# Altium integrated library Atmel Communication ICs.IntLib: 82 symbols (part 3 of 3)
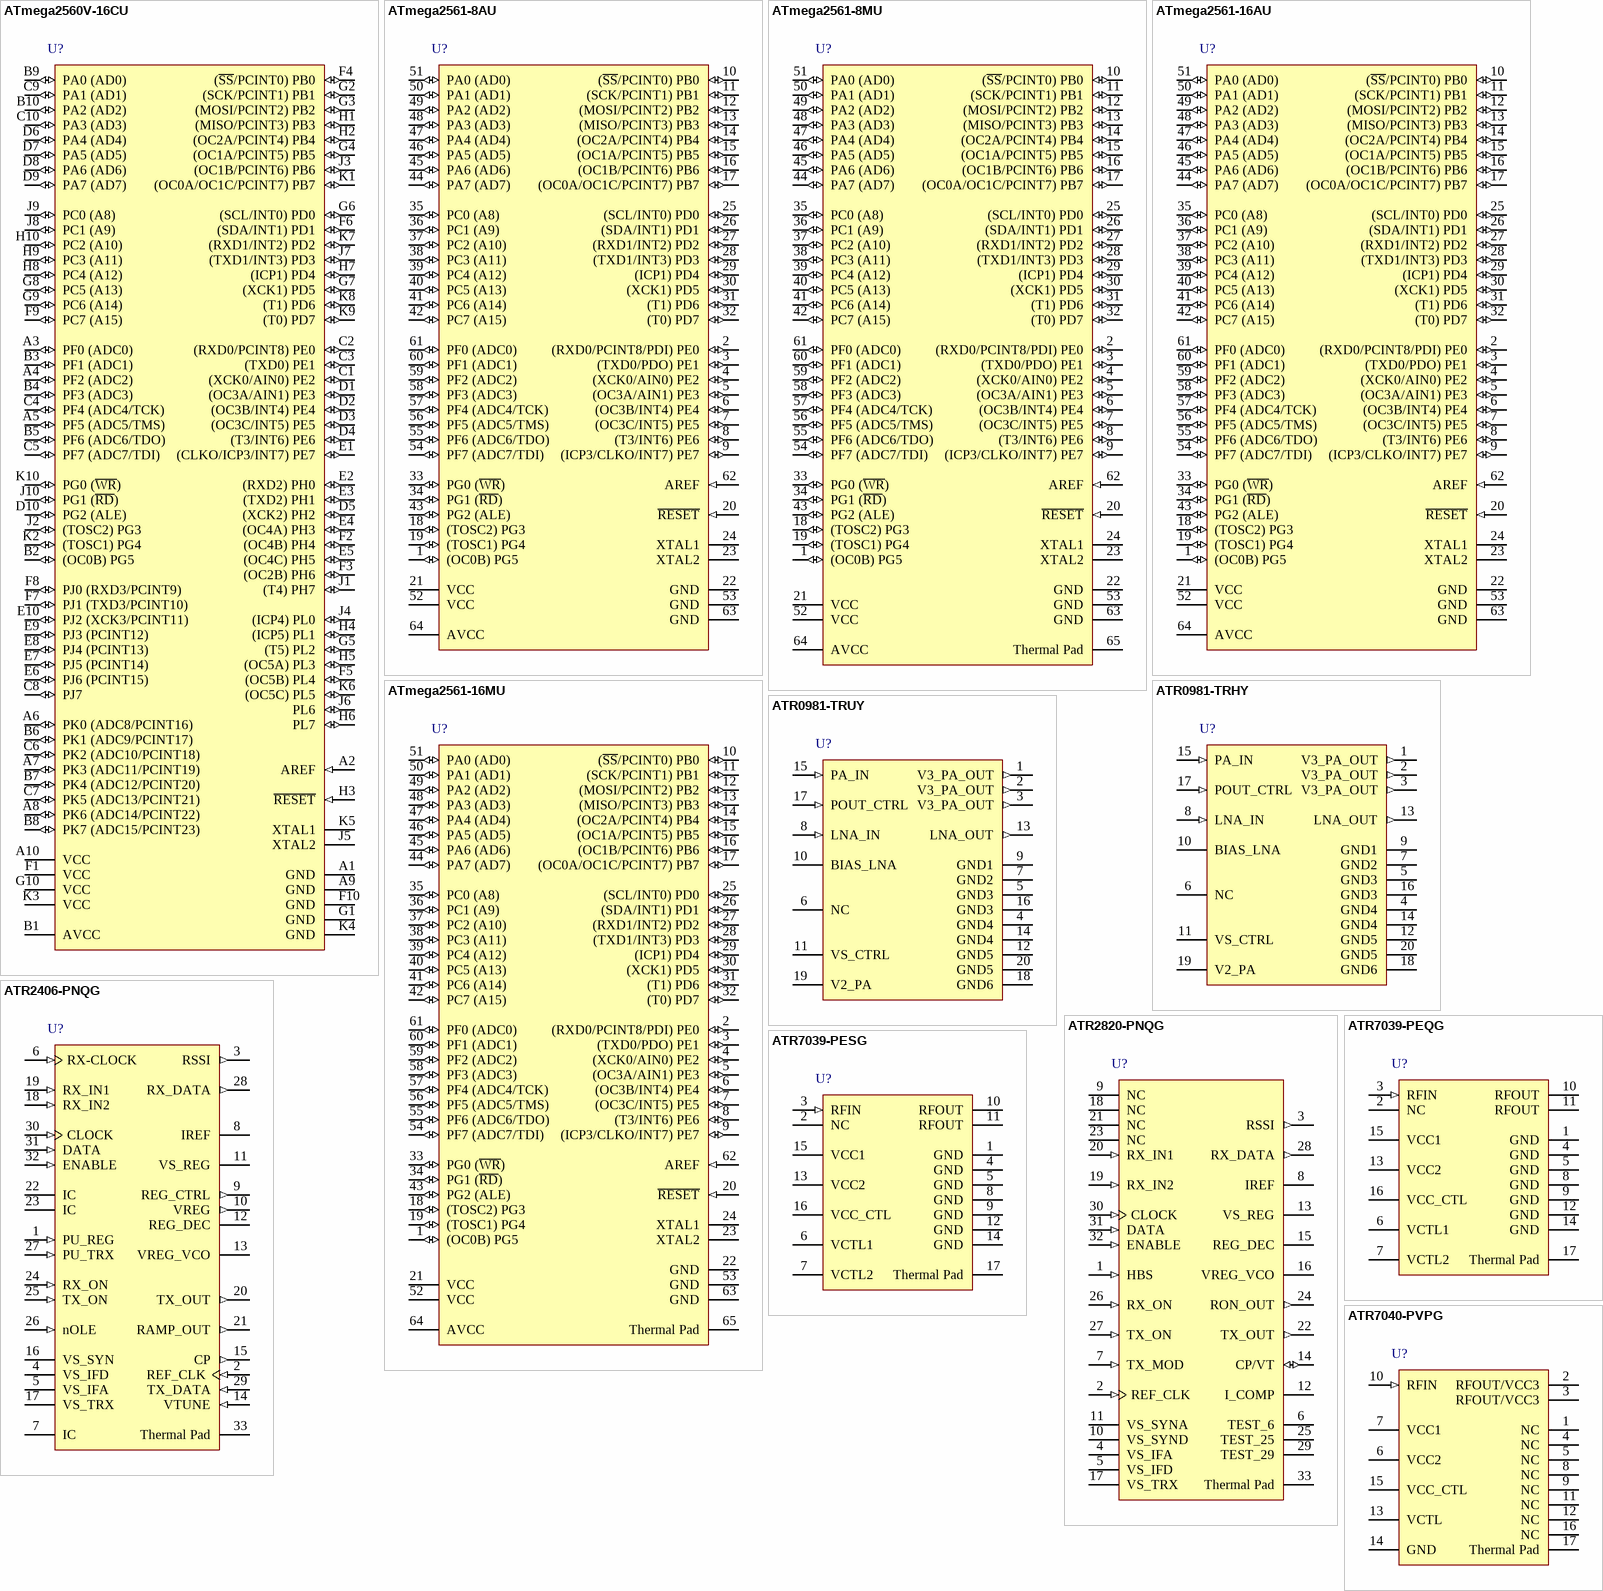
[diagram p10: symbols ATmega2560V-16CU to ATR7040-PVPG]

## ATmega2561-8MU
designator U?
8 MHz 8-bit AVR Microcontroller with 256KB Flash, 64-Pin MLF Pkg, 54 I/Os, 6 PWMs, 2 USARTs, 8 ADC Channels, Industrial Temp; Published: 20-Sep-2010; DatasheetVersion: revL, Aug-2007; PackageVersion: revD, May-2006; PackageReference: 64M2; Publisher: Altium Limited; PackageDescription: 64-Pin Micro Lead Frame Package (MLF), 9 x 9 x 1.0 mm Body, 0.5 mm Pitch, 7.65 mm Exposed Pad; Code_JEDEC: MO-220VMMD; ComponentLink1Description: ATmega2561 Datasheet; ComponentLink1URL: http://www.atmel.com/dyn/resources/prod_documents/doc2549.pdf; ComponentLink2Description: Atmel.com Home; ComponentLink2URL: http://www.atmel.com
footprint 64M2_N (QFN, 64-Leads, Body 9x9mm, Pitch 0.5mm, IPC Medium Density)
footprint 64M2_L (QFN, 64-Leads, Body 9x9mm, Pitch 0.5mm, IPC High Density)
footprint 64M2_M (QFN, 64-Leads, Body 9x9mm, Pitch 0.5mm, IPC Low Density)
pins: 1 (OC0B) PG5 (io), 2 (RXD0/PCINT8/PDI) PE0 (io), 3 (TXD0/PDO) PE1 (io), 4 (XCK0/AIN0) PE2 (io), 5 (OC3A/AIN1) PE3 (io), 6 (OC3B/INT4) PE4 (io), 7 (OC3C/INT5) PE5 (io), 8 (T3/INT6) PE6 (io), 9 (ICP3/CLKO/INT7) PE7 (io), 10 (~{SS}/PCINT0) PB0 (io), 11 (SCK/PCINT1) PB1 (io), 12 (MOSI/PCINT2) PB2 (io), 13 (MISO/PCINT3) PB3 (io), 14 (OC2A/PCINT4) PB4 (io), 15 (OC1A/PCINT5) PB5 (io), 16 (OC1B/PCINT6) PB6 (io), 17 (OC0A/OC1C/PCINT7) PB7 (io), 18 (TOSC2) PG3 (io), 19 (TOSC1) PG4 (io), 20 ~{RESET} (in), 21 VCC (power), 22 GND (power), 23 XTAL2, 24 XTAL1, 25 (SCL/INT0) PD0 (io), 26 (SDA/INT1) PD1 (io), 27 (RXD1/INT2) PD2 (io), 28 (TXD1/INT3) PD3 (io), 29 (ICP1) PD4 (io), 30 (XCK1) PD5 (io), 31 (T1) PD6 (io), 32 (T0) PD7 (io), 33 PG0 (~{WR})  (io), 34 PG1 (~{RD})  (io), 35 PC0 (A8)  (io), 36 PC1 (A9)  (io), 37 PC2 (A10)  (io), 38 PC3 (A11)  (io), 39 PC4 (A12)  (io), 40 PC5 (A13)  (io), 41 PC6 (A14)  (io), 42 PC7 (A15)  (io), 43 PG2 (ALE)  (io), 44 PA7 (AD7)  (io), 45 PA6 (AD6)  (io), 46 PA5 (AD5)  (io), 47 PA4 (AD4)  (io), 48 PA3 (AD3)  (io), 49 PA2 (AD2) (io), 50 PA1 (AD1) (io), 51 PA0 (AD0) (io), 52 VCC (power), 53 GND (power), 54 PF7 (ADC7/TDI) (io), 55 PF6 (ADC6/TDO) (io), 56 PF5 (ADC5/TMS) (io), 57 PF4 (ADC4/TCK) (io), 58 PF3 (ADC3) (io), 59 PF2 (ADC2) (io), 60 PF1 (ADC1) (io), 61 PF0 (ADC0) (io), 62 AREF (in), 63 GND (power), 64 AVCC (power), 65 Thermal Pad (power)

## ATmega2561-16AU
designator U?
16 MHz 8-bit AVR Microcontroller with 256KB Flash, 64-Pin TQFP Pkg, 54 I/Os, 6 PWMs, 2 USARTs, 8 ADC Channels, Industrial Temp; Published: 20-Sep-2010; DatasheetVersion: revL, Aug-2007; PackageVersion: revB, Oct-2001; PackageReference: 64A; Publisher: Altium Limited; PackageDescription: 64-Pin Plastic Thin Profile Quad Flat Pack, 14 x 14 x 1.0 mm Body, 0.8 mm Pitch (TQFP); Supplier 1: Digi-Key; Supplier Part Number 1: ATMEGA2561-16AU-ND; Supplier 2: Farnell; Supplier Part Number 2: 1288332; Supplier 3: Mouser; Supplier Part Number 3: 556-ATMEGA2561-16AU; Code_JEDEC: MS-026-AEB; ComponentLink1Description: ATmega2561 Datasheet; ComponentLink1URL: http://www.atmel.com/dyn/resources/prod_documents/doc2549.pdf; ComponentLink2Description: Atmel.com Home; ComponentLink2URL: http://www.atmel.com
footprint 64A_N (Thin QFP, 64-Leads, Body 14x14mm, Pitch 0.8mm, IPC Medium Density)
footprint 64A_L (Thin QFP, 64-Leads, Body 14x14mm, Pitch 0.8mm, IPC High Density)
footprint 64A_M (Thin QFP, 64-Leads, Body 14x14mm, Pitch 0.8mm, IPC Low Density)
pins: 1 (OC0B) PG5 (io), 2 (RXD0/PCINT8/PDI) PE0 (io), 3 (TXD0/PDO) PE1 (io), 4 (XCK0/AIN0) PE2 (io), 5 (OC3A/AIN1) PE3 (io), 6 (OC3B/INT4) PE4 (io), 7 (OC3C/INT5) PE5 (io), 8 (T3/INT6) PE6 (io), 9 (ICP3/CLKO/INT7) PE7 (io), 10 (~{SS}/PCINT0) PB0 (io), 11 (SCK/PCINT1) PB1 (io), 12 (MOSI/PCINT2) PB2 (io), 13 (MISO/PCINT3) PB3 (io), 14 (OC2A/PCINT4) PB4 (io), 15 (OC1A/PCINT5) PB5 (io), 16 (OC1B/PCINT6) PB6 (io), 17 (OC0A/OC1C/PCINT7) PB7 (io), 18 (TOSC2) PG3 (io), 19 (TOSC1) PG4 (io), 20 ~{RESET} (in), 21 VCC (power), 22 GND (power), 23 XTAL2, 24 XTAL1, 25 (SCL/INT0) PD0 (io), 26 (SDA/INT1) PD1 (io), 27 (RXD1/INT2) PD2 (io), 28 (TXD1/INT3) PD3 (io), 29 (ICP1) PD4 (io), 30 (XCK1) PD5 (io), 31 (T1) PD6 (io), 32 (T0) PD7 (io), 33 PG0 (~{WR})  (io), 34 PG1 (~{RD})  (io), 35 PC0 (A8)  (io), 36 PC1 (A9)  (io), 37 PC2 (A10)  (io), 38 PC3 (A11)  (io), 39 PC4 (A12)  (io), 40 PC5 (A13)  (io), 41 PC6 (A14)  (io), 42 PC7 (A15)  (io), 43 PG2 (ALE)  (io), 44 PA7 (AD7)  (io), 45 PA6 (AD6)  (io), 46 PA5 (AD5)  (io), 47 PA4 (AD4)  (io), 48 PA3 (AD3)  (io), 49 PA2 (AD2) (io), 50 PA1 (AD1) (io), 51 PA0 (AD0) (io), 52 VCC (power), 53 GND (power), 54 PF7 (ADC7/TDI) (io), 55 PF6 (ADC6/TDO) (io), 56 PF5 (ADC5/TMS) (io), 57 PF4 (ADC4/TCK) (io), 58 PF3 (ADC3) (io), 59 PF2 (ADC2) (io), 60 PF1 (ADC1) (io), 61 PF0 (ADC0) (io), 62 AREF (in), 63 GND (power), 64 AVCC (power)

## ATmega2561-16MU
designator U?
16 MHz 8-bit AVR Microcontroller with 256KB Flash, 64-Pin MLF Pkg, 54 I/Os, 6 PWMs, 2 USARTs, 8 ADC Channels, Industrial Temp; Published: 20-Sep-2010; DatasheetVersion: revL, Aug-2007; PackageVersion: revD, May-2006; PackageReference: 64M2; Publisher: Altium Limited; PackageDescription: 64-Pin Micro Lead Frame Package (MLF), 9 x 9 x 1.0 mm Body, 0.5 mm Pitch, 7.65 mm Exposed Pad; Supplier 1: Digi-Key; Supplier Part Number 1: ATMEGA2561-16MU-ND; Supplier 2: Mouser; Supplier Part Number 2: 556-ATMEGA2561-16MU; Code_JEDEC: MO-220VMMD; ComponentLink1Description: ATmega2561 Datasheet; ComponentLink1URL: http://www.atmel.com/dyn/resources/prod_documents/doc2549.pdf; ComponentLink2Description: Atmel.com Home; ComponentLink2URL: http://www.atmel.com
footprint 64M2_N (QFN, 64-Leads, Body 9x9mm, Pitch 0.5mm, IPC Medium Density)
footprint 64M2_L (QFN, 64-Leads, Body 9x9mm, Pitch 0.5mm, IPC High Density)
footprint 64M2_M (QFN, 64-Leads, Body 9x9mm, Pitch 0.5mm, IPC Low Density)
pins: 1 (OC0B) PG5 (io), 2 (RXD0/PCINT8/PDI) PE0 (io), 3 (TXD0/PDO) PE1 (io), 4 (XCK0/AIN0) PE2 (io), 5 (OC3A/AIN1) PE3 (io), 6 (OC3B/INT4) PE4 (io), 7 (OC3C/INT5) PE5 (io), 8 (T3/INT6) PE6 (io), 9 (ICP3/CLKO/INT7) PE7 (io), 10 (~{SS}/PCINT0) PB0 (io), 11 (SCK/PCINT1) PB1 (io), 12 (MOSI/PCINT2) PB2 (io), 13 (MISO/PCINT3) PB3 (io), 14 (OC2A/PCINT4) PB4 (io), 15 (OC1A/PCINT5) PB5 (io), 16 (OC1B/PCINT6) PB6 (io), 17 (OC0A/OC1C/PCINT7) PB7 (io), 18 (TOSC2) PG3 (io), 19 (TOSC1) PG4 (io), 20 ~{RESET} (in), 21 VCC (power), 22 GND (power), 23 XTAL2, 24 XTAL1, 25 (SCL/INT0) PD0 (io), 26 (SDA/INT1) PD1 (io), 27 (RXD1/INT2) PD2 (io), 28 (TXD1/INT3) PD3 (io), 29 (ICP1) PD4 (io), 30 (XCK1) PD5 (io), 31 (T1) PD6 (io), 32 (T0) PD7 (io), 33 PG0 (~{WR})  (io), 34 PG1 (~{RD})  (io), 35 PC0 (A8)  (io), 36 PC1 (A9)  (io), 37 PC2 (A10)  (io), 38 PC3 (A11)  (io), 39 PC4 (A12)  (io), 40 PC5 (A13)  (io), 41 PC6 (A14)  (io), 42 PC7 (A15)  (io), 43 PG2 (ALE)  (io), 44 PA7 (AD7)  (io), 45 PA6 (AD6)  (io), 46 PA5 (AD5)  (io), 47 PA4 (AD4)  (io), 48 PA3 (AD3)  (io), 49 PA2 (AD2) (io), 50 PA1 (AD1) (io), 51 PA0 (AD0) (io), 52 VCC (power), 53 GND (power), 54 PF7 (ADC7/TDI) (io), 55 PF6 (ADC6/TDO) (io), 56 PF5 (ADC5/TMS) (io), 57 PF4 (ADC4/TCK) (io), 58 PF3 (ADC3) (io), 59 PF2 (ADC2) (io), 60 PF1 (ADC1) (io), 61 PF0 (ADC0) (io), 62 AREF (in), 63 GND (power), 64 AVCC (power), 65 Thermal Pad (power)

## ATR0981-TRHY
designator U?
Monolithic SiGe Tx/Rx Front-end IC, 20-Pin SSOP Pkg, Frequency Range 300 MHz to 500 MHz, Taped and Reeled; Published: 20-Sep-2010; DatasheetVersion: revA, Sep-2005; PackageVersion: 2005; PackageReference: SSO20; Publisher: Altium Limited; PackageDescription: 20-Pin Shrink SOP, 6.6 x 4.4 x 1.3 mm Body, 0.65 mm Pitch; Supplier 1: Digi-Key; Supplier Part Number 1: ATR0981-TRHY-ND; Supplier 2: Mouser; Supplier Part Number 2: 556-ATR0981TRHY; ComponentLink1Description: ATR0981 Datasheet; ComponentLink1URL: http://www.atmel.com/dyn/resources/prod_documents/doc4862.pdf; ComponentLink2Description: Atmel.com Home; ComponentLink2URL: http://www.atmel.com
footprint SSO20_N (SOP, 20-Leads, Body 6.6x4.4mm, Pitch 0.65mm, IPC Medium Density)
footprint SSO20_L (SOP, 20-Leads, Body 6.6x4.4mm, Pitch 0.65mm, IPC High Density)
footprint SSO20_M (SOP, 20-Leads, Body 6.6x4.4mm, Pitch 0.65mm, IPC Low Density)
pins: 1 V3_PA_OUT (out), 2 V3_PA_OUT (out), 3 V3_PA_OUT (out), 4 GND4 (power), 5 GND3 (power), 6 NC, 7 GND2 (power), 8 LNA_IN (in), 9 GND1 (power), 10 BIAS_LNA, 11 VS_CTRL (power), 12 GND5 (power), 13 LNA_OUT (out), 14 GND4 (power), 15 PA_IN (in), 16 GND3 (power), 17 POUT_CTRL (in), 18 GND6 (power), 19 V2_PA (power), 20 GND5 (power)

## ATR0981-TRUY
designator U?
Monolithic SiGe Tx/Rx Front-end IC, 20-Pin SSOP Pkg, Frequency Range 300 MHz to 500 MHz, Tube; Published: 20-Sep-2010; DatasheetVersion: revA, Sep-2005; PackageVersion: 2005; PackageReference: SSO20; Publisher: Altium Limited; PackageDescription: 20-Pin Shrink SOP, 6.6 x 4.4 x 1.3 mm Body, 0.65 mm Pitch; Supplier 1: Digi-Key; Supplier Part Number 1: ATR0981-TRUY-ND; Supplier 2: Mouser; Supplier Part Number 2: 556-ATR0981TRUY; ComponentLink1Description: ATR0981 Datasheet; ComponentLink1URL: http://www.atmel.com/dyn/resources/prod_documents/doc4862.pdf; ComponentLink2Description: Atmel.com Home; ComponentLink2URL: http://www.atmel.com
footprint SSO20_N (SOP, 20-Leads, Body 6.6x4.4mm, Pitch 0.65mm, IPC Medium Density)
footprint SSO20_L (SOP, 20-Leads, Body 6.6x4.4mm, Pitch 0.65mm, IPC High Density)
footprint SSO20_M (SOP, 20-Leads, Body 6.6x4.4mm, Pitch 0.65mm, IPC Low Density)
pins: 1 V3_PA_OUT (out), 2 V3_PA_OUT (out), 3 V3_PA_OUT (out), 4 GND4 (power), 5 GND3 (power), 6 NC, 7 GND2 (power), 8 LNA_IN (in), 9 GND1 (power), 10 BIAS_LNA, 11 VS_CTRL (power), 12 GND5 (power), 13 LNA_OUT (out), 14 GND4 (power), 15 PA_IN (in), 16 GND3 (power), 17 POUT_CTRL (in), 18 GND6 (power), 19 V2_PA (power), 20 GND5 (power)

## ATR2406-PNQG
designator U?
Low-IF 2.4 GHz ISM Transceiver, 32-Pin QFN Pkg, Taped and Reeled, Pb-Free; Published: 20-Sep-2010; DatasheetVersion: revN, Dec-2008; PackageVersion: rev1, Jan-2003; PackageReference: 32QFN5X5; Publisher: Altium Limited; PackageDescription: 32-Pin Quad Flat No-Lead (QFN) Sawn,  5 x 5 x 1.0 mm Body, Pitch 0.50 mm, 3.70mm Exposed Pad; ComponentLink1Description: ATR2406 Datasheet; ComponentLink1URL: http://www.atmel.com/dyn/resources/prod_documents/doc4779.pdf; ComponentLink2Description: Atmel.com Home; ComponentLink2URL: http://www.atmel.com
footprint 32QFN5X5_N (QFN, 32-Leads, Body 5x5mm, Pitch 0.5mm, IPC Medium Density)
footprint 32QFN5X5_L (QFN, 32-Leads, Body 5x5mm, Pitch 0.5mm, IPC High Density)
footprint 32QFN5X5_M (QFN, 32-Leads, Body 5x5mm, Pitch 0.5mm, IPC Low Density)
pins: 1 PU_REG (in), 2 REF_CLK (in), 3 RSSI (out), 4 VS_IFD (power), 5 VS_IFA (power), 6 RX-CLOCK (in), 7 IC (power), 8 IREF, 9 REG_CTRL (out), 10 VREG (out), 11 VS_REG (power), 12 REG_DEC, 13 VREG_VCO (power), 14 VTUNE (in), 15 CP (out), 16 VS_SYN (power), 17 VS_TRX (power), 18 RX_IN2 (in), 19 RX_IN1 (in), 20 TX_OUT (out), 21 RAMP_OUT (out), 22 IC, 23 IC, 24 RX_ON (in), 25 TX_ON (in), 26 nOLE (in), 27 PU_TRX (in), 28 RX_DATA (out), 29 TX_DATA (in), 30 CLOCK (in), 31 DATA (in), 32 ENABLE (in), 33 Thermal Pad (power)

## ATR2820-PNQG
designator U?
Low IF WDCT 5.8 GHz Transceiver, 32-Pin QFN Pkg, Taped and Reeled; Published: 20-Sep-2010; DatasheetVersion: revA, Jan-2010; PackageVersion: revG, Nov-2008; PackageReference: 32PN; Publisher: Altium Limited; PackageDescription: 32-Pin Quad Flat No-Lead, 5 x 5 mm Body,  0.5 mm Pitch (QFN); Code_JEDEC: MO-220-VHHD-2; ComponentLink1Description: ATR2820 Datasheet; ComponentLink1URL: http://www.atmel.com/dyn/resources/prod_documents/doc4704.pdf; ComponentLink2Description: Atmel.com Home; ComponentLink2URL: http://www.atmel.com
footprint 32PN_N (QFN, 32-Leads, Body 5x5mm, Pitch 0.5mm, IPC Medium Density)
footprint 32PN_L (QFN, 32-Leads, Body 5x5mm, Pitch 0.5mm, IPC High Density)
footprint 32PN_M (QFN, 32-Leads, Body 5x5mm, Pitch 0.5mm, IPC Low Density)
pins: 1 HBS (in), 2 REF_CLK (in), 3 RSSI (out), 4 VS_IFA (power), 5 VS_IFD (power), 6 TEST_6, 7 TX_MOD (in), 8 IREF, 9 NC, 10 VS_SYND (power), 11 VS_SYNA (power), 12 I_COMP, 13 VS_REG (power), 14 CP/VT (io), 15 REG_DEC, 16 VREG_VCO (power), 17 VS_TRX (power), 18 NC, 19 RX_IN2 (in), 20 RX_IN1 (in), 21 NC, 22 TX_OUT (out), 23 NC, 24 RON_OUT (out), 25 TEST_25, 26 RX_ON (in), 27 TX_ON (in), 28 RX_DATA (out), 29 TEST_29, 30 CLOCK (in), 31 DATA (in), 32 ENABLE (in), 33 Thermal Pad (power)

## ATR7039-PEQG
designator U?
2.9 to 5.8 GHz SiGe Frequency Doubler IC, 16-Pin QFN Pkg, Taped and Reeled, MOQ 6000, Pb-Free; Published: 20-Sep-2010; DatasheetVersion: revE, Jul-2005; PackageVersion: rev2, Jan-2003; PackageReference: 16QFN4X4; Publisher: Altium Limited; PackageDescription: 16-Pin Quad Flat No-Lead, 4 x 4 mm Body, 0.65 mm Pitch, 2.1 x 2.1 mm Exposed Pad; Code_JEDEC: MO-220; ComponentLink1Description: ATR7039 Datasheet; ComponentLink1URL: http://www.atmel.com/dyn/resources/prod_documents/doc4786.pdf; ComponentLink2Description: Atmel.com Home; ComponentLink2URL: http://www.atmel.com
footprint 16QFN4X4_N (QFN, 16-Leads, Body 4x4 mm, Pitch 0.65mm, IPC Medium Density)
footprint 16QFN4X4_L (QFN, 16-Leads, Body 4x4 mm, Pitch 0.65mm, IPC High Density)
footprint 16QFN4X4_M (QFN, 16-Leads, Body 4x4 mm, Pitch 0.65mm, IPC Low Density)
pins: 1 GND (power), 2 NC, 3 RFIN (in), 4 GND (power), 5 GND (power), 6 VCTL1 (power), 7 VCTL2 (power), 8 GND (power), 9 GND (power), 10 RFOUT (power), 11 RFOUT (power), 12 GND (power), 13 VCC2 (power), 14 GND (power), 15 VCC1 (power), 16 VCC_CTL (power), 17 Thermal Pad (power)

## ATR7039-PESG
designator U?
2.9 to 5.8 GHz SiGe Frequency Doubler IC, 16-Pin QFN Pkg, Tube, MOQ 750, Pb-Free; Published: 20-Sep-2010; DatasheetVersion: revE, Jul-2005; PackageVersion: rev2, Jan-2003; PackageReference: 16QFN4X4; Publisher: Altium Limited; PackageDescription: 16-Pin Quad Flat No-Lead, 4 x 4 mm Body, 0.65 mm Pitch, 2.1 x 2.1 mm Exposed Pad; Code_JEDEC: MO-220; ComponentLink1Description: ATR7039 Datasheet; ComponentLink1URL: http://www.atmel.com/dyn/resources/prod_documents/doc4786.pdf; ComponentLink2Description: Atmel.com Home; ComponentLink2URL: http://www.atmel.com
footprint 16QFN4X4_N (QFN, 16-Leads, Body 4x4 mm, Pitch 0.65mm, IPC Medium Density)
footprint 16QFN4X4_L (QFN, 16-Leads, Body 4x4 mm, Pitch 0.65mm, IPC High Density)
footprint 16QFN4X4_M (QFN, 16-Leads, Body 4x4 mm, Pitch 0.65mm, IPC Low Density)
pins: 1 GND (power), 2 NC, 3 RFIN (in), 4 GND (power), 5 GND (power), 6 VCTL1 (power), 7 VCTL2 (power), 8 GND (power), 9 GND (power), 10 RFOUT (power), 11 RFOUT (power), 12 GND (power), 13 VCC2 (power), 14 GND (power), 15 VCC1 (power), 16 VCC_CTL (power), 17 Thermal Pad (power)

## ATR7040-PVPG
designator U?
5.8 GHz WDCT Power Amplifier, 16-Pin QFN Pkg, Taped and Reeled, MOQ 2000, Pb-Free; Published: 20-Sep-2010; DatasheetVersion: revC, May-2006; PackageVersion: rev1, Mar-2005; PackageReference: 16QFN3X3; Publisher: Altium Limited; PackageDescription: 16-Pin Quad Flat No-Lead, 3 x 3 mm Body, 0.5 mm Pitch, 1.7 x 1.7 mm Exposed Pad; Supplier 1: Digi-Key; Supplier Part Number 1: ATR7040-PVPG-ND; Supplier 2: Mouser; Supplier Part Number 2: 556-ATR7040-PVPG; Code_JEDEC: MO-220; ComponentLink1Description: ATR7040 Datasheet; ComponentLink1URL: http://www.atmel.com/dyn/resources/prod_documents/doc4868.pdf; ComponentLink2Description: Atmel.com Home; ComponentLink2URL: http://www.atmel.com
footprint 16QFN3X3_N (QFN, 16-Leads, Body 3x3mm, Pitch 0.5mm, IPC Medium Density)
footprint 16QFN3X3_L (QFN, 16-Leads, Body 3x3mm, Pitch 0.5mm, IPC High Density)
footprint 16QFN3X3_M (QFN, 16-Leads, Body 3x3mm, Pitch 0.5mm, IPC Low Density)
pins: 1 NC, 2 RFOUT/VCC3 (power), 3 RFOUT/VCC3 (power), 4 NC, 5 NC, 6 VCC2 (power), 7 VCC1 (power), 8 NC, 9 NC, 10 RFIN (in), 11 NC, 12 NC, 13 VCTL (power), 14 GND (power), 15 VCC_CTL (power), 16 NC, 17 Thermal Pad (power)

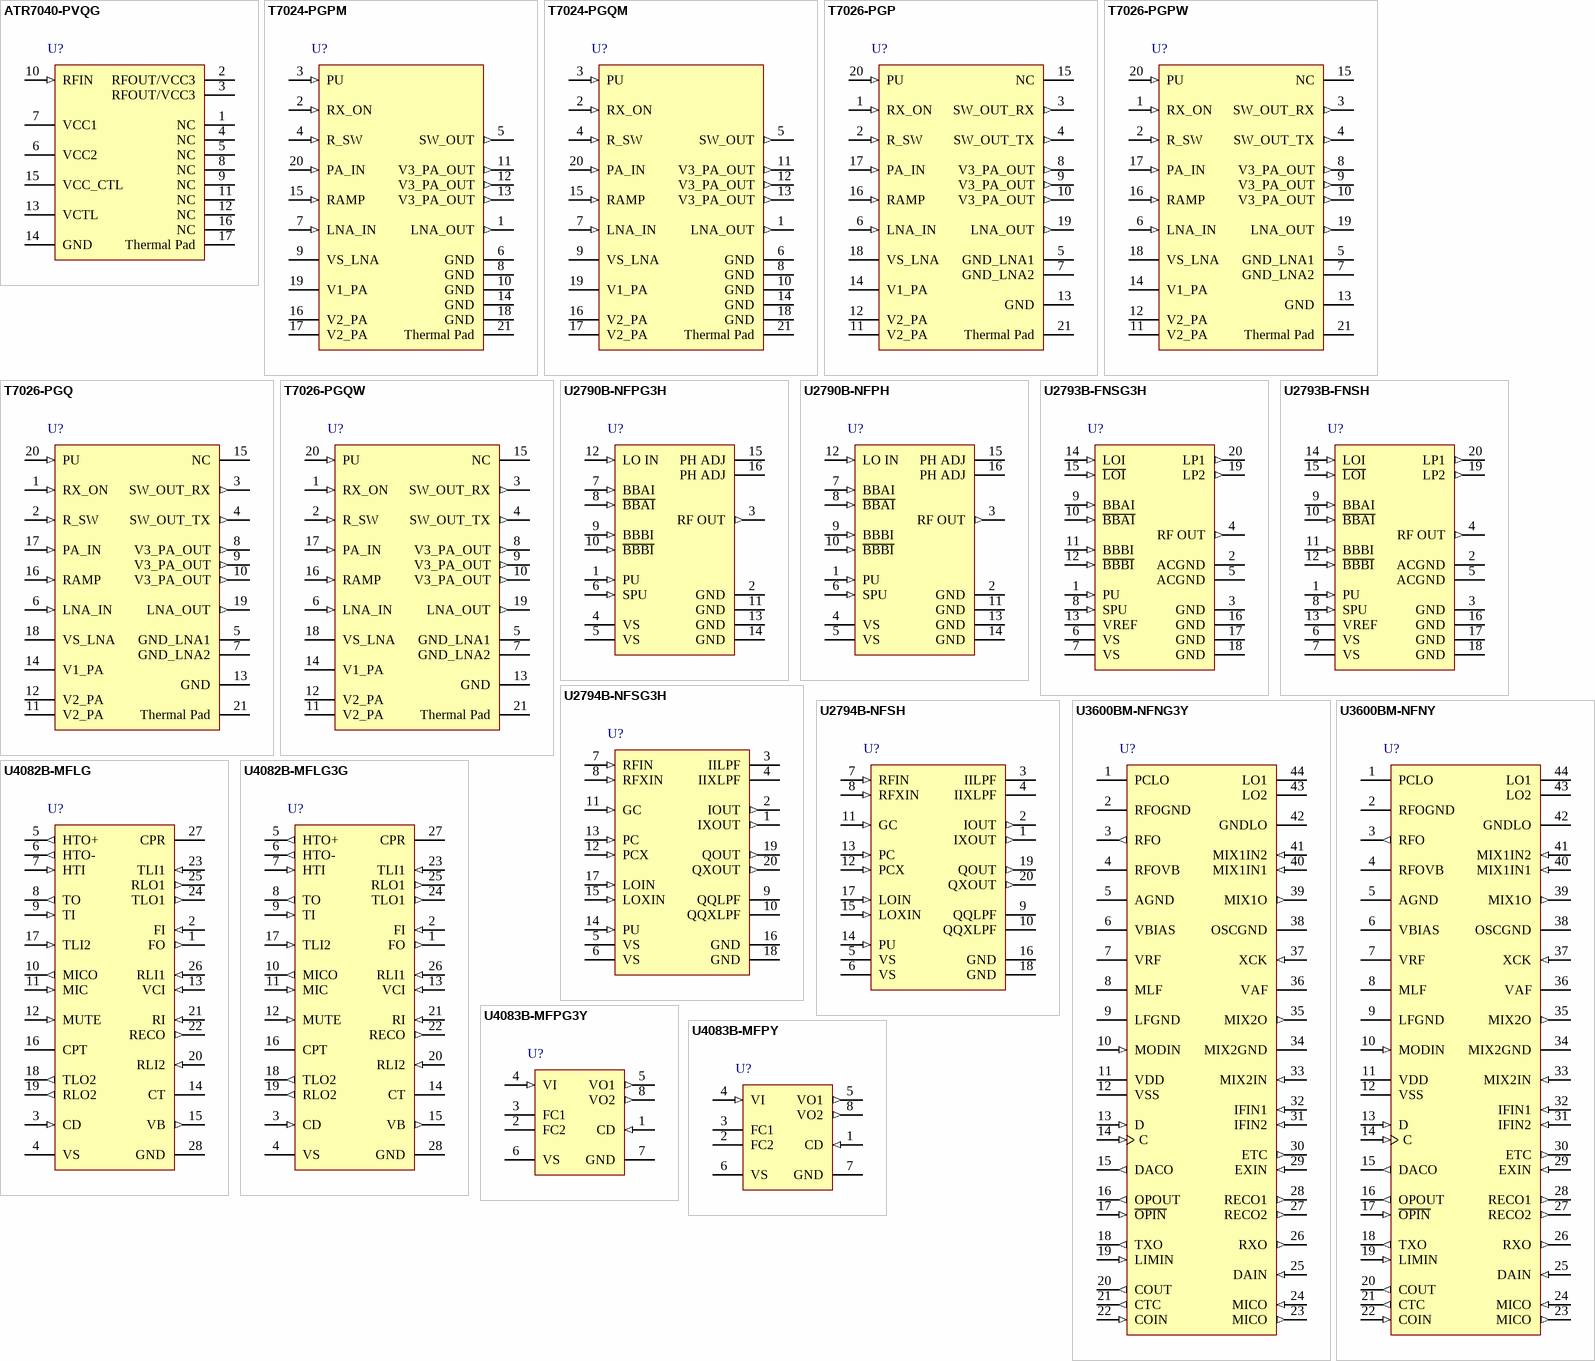
[diagram p7: symbols ATR7040-PVQG to U4083B-MFPY]

## ATR7040-PVQG
designator U?
5.8 GHz WDCT Power Amplifier, 16-Pin QFN Pkg, Taped and Reeled, MOQ 8000, Pb-Free; Published: 20-Sep-2010; DatasheetVersion: revC, May-2006; PackageVersion: rev1, Mar-2005; PackageReference: 16QFN3X3; Publisher: Altium Limited; PackageDescription: 16-Pin Quad Flat No-Lead, 3 x 3 mm Body, 0.5 mm Pitch, 1.7 x 1.7 mm Exposed Pad; Supplier 1: Digi-Key; Supplier Part Number 1: ATR7040-PVQG-ND; Supplier 2: Mouser; Supplier Part Number 2: 556-ATR7040-PVQG; Code_JEDEC: MO-220; ComponentLink1Description: ATR7040 Datasheet; ComponentLink1URL: http://www.atmel.com/dyn/resources/prod_documents/doc4868.pdf; ComponentLink2Description: Atmel.com Home; ComponentLink2URL: http://www.atmel.com
footprint 16QFN3X3_N (QFN, 16-Leads, Body 3x3mm, Pitch 0.5mm, IPC Medium Density)
footprint 16QFN3X3_L (QFN, 16-Leads, Body 3x3mm, Pitch 0.5mm, IPC High Density)
footprint 16QFN3X3_M (QFN, 16-Leads, Body 3x3mm, Pitch 0.5mm, IPC Low Density)
pins: 1 NC, 2 RFOUT/VCC3 (power), 3 RFOUT/VCC3 (power), 4 NC, 5 NC, 6 VCC2 (power), 7 VCC1 (power), 8 NC, 9 NC, 10 RFIN (in), 11 NC, 12 NC, 13 VCTL (power), 14 GND (power), 15 VCC_CTL (power), 16 NC, 17 Thermal Pad (power)

## T7024-PGPM
designator U?
Bluetooth ISM 2.4 GHz Tx/Rx Front End IC, 20-Pin QFN Pkg, Taped and Reeled, Pb-Free, Halogen-Free, 1500 pcs; Published: 20-Sep-2010; DatasheetVersion: revI, Jan-2009; PackageVersion: rev1, Dec-2002; PackageReference: QFN20; Publisher: Altium Limited; PackageDescription: 20-Pin Quad Flat No-Lead, 5 x 5 mm Body, 0.65 mm Pitch, 3.1 x 3.1 mm Exposed Pad; Supplier 1: Digi-Key; Supplier Part Number 1: T7024-PGPMTR-ND; Supplier 2: Digi-Key; Supplier Part Number 2: T7024-PGPMCT-ND; Supplier 3: Mouser; Supplier Part Number 3: 556-T7024-PGPM; Code_IPC: QFN65P500X500-20V; ComponentLink1Description: T7024 Datasheet; ComponentLink1URL: http://www.atmel.com/dyn/resources/prod_documents/doc4533.pdf; ComponentLink2Description: Atmel.com Home; ComponentLink2URL: http://www.atmel.com
footprint QFN20_N (QFN, 20-Leads, Body 5x5 mm, Pitch 0.65mm, IPC Medium Density)
footprint QFN20_L (QFN, 20-Leads, Body 5x5 mm, Pitch 0.65mm, IPC High Density)
footprint QFN20_M (QFN, 20-Leads, Body 5x5 mm, Pitch 0.65mm, IPC Low Density)
pins: 1 LNA_OUT (out), 2 RX_ON (in), 3 PU (in), 4 R_SW (in), 5 SW_OUT (out), 6 GND (power), 7 LNA_IN (in), 8 GND (power), 9 VS_LNA (power), 10 GND (power), 11 V3_PA_OUT (out), 12 V3_PA_OUT (out), 13 V3_PA_OUT (out), 14 GND (power), 15 RAMP (in), 16 V2_PA (power), 17 V2_PA (power), 18 GND (power), 19 V1_PA (power), 20 PA_IN (in), 21 Thermal Pad (power)

## T7024-PGQM
designator U?
Bluetooth ISM 2.4 GHz Tx/Rx Front End IC, 20-Pin QFN Pkg, Taped and Reeled, Pb-Free, Halogen-Free, 6000 pcs; Published: 20-Sep-2010; DatasheetVersion: revI, Jan-2009; PackageVersion: rev1, Dec-2002; PackageReference: QFN20; Publisher: Altium Limited; PackageDescription: 20-Pin Quad Flat No-Lead, 5 x 5 mm Body, 0.65 mm Pitch, 3.1 x 3.1 mm Exposed Pad; Supplier 1: Mouser; Supplier Part Number 1: 556-T7024-PGQM; Code_IPC: QFN65P500X500-20V; ComponentLink1Description: T7024 Datasheet; ComponentLink1URL: http://www.atmel.com/dyn/resources/prod_documents/doc4533.pdf; ComponentLink2Description: Atmel.com Home; ComponentLink2URL: http://www.atmel.com
footprint QFN20_N (QFN, 20-Leads, Body 5x5 mm, Pitch 0.65mm, IPC Medium Density)
footprint QFN20_L (QFN, 20-Leads, Body 5x5 mm, Pitch 0.65mm, IPC High Density)
footprint QFN20_M (QFN, 20-Leads, Body 5x5 mm, Pitch 0.65mm, IPC Low Density)
pins: 1 LNA_OUT (out), 2 RX_ON (in), 3 PU (in), 4 R_SW (in), 5 SW_OUT (out), 6 GND (power), 7 LNA_IN (in), 8 GND (power), 9 VS_LNA (power), 10 GND (power), 11 V3_PA_OUT (out), 12 V3_PA_OUT (out), 13 V3_PA_OUT (out), 14 GND (power), 15 RAMP (in), 16 V2_PA (power), 17 V2_PA (power), 18 GND (power), 19 V1_PA (power), 20 PA_IN (in), 21 Thermal Pad (power)

## T7026-PGP
designator U?
2.4 GHz Monolithic SiGe Transmit/Receive front-end IC, 20-Pin QFN Pkg, Taped and Reeled, MOQ 1500; Published: 20-Sep-2010; DatasheetVersion: revE, Jul-2005; PackageVersion: rev1, Dec-2002; PackageReference: QFN20; Publisher: Altium Limited; PackageDescription: 20-Pin Quad Flat No-Lead, 5 x 5 mm Body, 0.65 mm Pitch, 3.1 x 3.1 mm Exposed Pad; Supplier 1: Digi-Key; Supplier Part Number 1: T7026-PGPTR-ND; Supplier 2: Digi-Key; Supplier Part Number 2: T7026-PGPCT-ND; Code_IPC: QFN65P500X500-20V; ComponentLink1Description: T7026 Datasheet; ComponentLink1URL: http://www.atmel.com/dyn/resources/prod_documents/doc4563.pdf; ComponentLink2Description: Atmel.com Home; ComponentLink2URL: http://www.atmel.com
footprint QFN20_N (QFN, 20-Leads, Body 5x5 mm, Pitch 0.65mm, IPC Medium Density)
footprint QFN20_L (QFN, 20-Leads, Body 5x5 mm, Pitch 0.65mm, IPC High Density)
footprint QFN20_M (QFN, 20-Leads, Body 5x5 mm, Pitch 0.65mm, IPC Low Density)
pins: 1 RX_ON (in), 2 R_SW (in), 3 SW_OUT_RX (out), 4 SW_OUT_TX (out), 5 GND_LNA1 (power), 6 LNA_IN (in), 7 GND_LNA2 (power), 8 V3_PA_OUT (out), 9 V3_PA_OUT (out), 10 V3_PA_OUT (out), 11 V2_PA (power), 12 V2_PA (power), 13 GND (power), 14 V1_PA (power), 15 NC, 16 RAMP (in), 17 PA_IN (in), 18 VS_LNA (power), 19 LNA_OUT (out), 20 PU (in), 21 Thermal Pad (power)

## T7026-PGPW
designator U?
2.4 GHz Monolithic SiGe Transmit/Receive front-end IC, 20-Pin QFN Pkg, Taped and Reeled, MOQ 1500, Pb-Free, Halogen-Free; Published: 20-Sep-2010; DatasheetVersion: revE, Jul-2005; PackageVersion: rev1, Dec-2002; PackageReference: QFN20; Publisher: Altium Limited; PackageDescription: 20-Pin Quad Flat No-Lead, 5 x 5 mm Body, 0.65 mm Pitch, 3.1 x 3.1 mm Exposed Pad; Supplier 1: Digi-Key; Supplier Part Number 1: T7026-PGPW-ND; Supplier 2: Mouser; Supplier Part Number 2: 556-T7026-PGPW; Code_IPC: QFN65P500X500-20V; ComponentLink1Description: T7026 Datasheet; ComponentLink1URL: http://www.atmel.com/dyn/resources/prod_documents/doc4563.pdf; ComponentLink2Description: Atmel.com Home; ComponentLink2URL: http://www.atmel.com
footprint QFN20_N (QFN, 20-Leads, Body 5x5 mm, Pitch 0.65mm, IPC Medium Density)
footprint QFN20_L (QFN, 20-Leads, Body 5x5 mm, Pitch 0.65mm, IPC High Density)
footprint QFN20_M (QFN, 20-Leads, Body 5x5 mm, Pitch 0.65mm, IPC Low Density)
pins: 1 RX_ON (in), 2 R_SW (in), 3 SW_OUT_RX (out), 4 SW_OUT_TX (out), 5 GND_LNA1 (power), 6 LNA_IN (in), 7 GND_LNA2 (power), 8 V3_PA_OUT (out), 9 V3_PA_OUT (out), 10 V3_PA_OUT (out), 11 V2_PA (power), 12 V2_PA (power), 13 GND (power), 14 V1_PA (power), 15 NC, 16 RAMP (in), 17 PA_IN (in), 18 VS_LNA (power), 19 LNA_OUT (out), 20 PU (in), 21 Thermal Pad (power)

## T7026-PGQ
designator U?
2.4 GHz Monolithic SiGe Transmit/Receive front-end IC, 20-Pin QFN Pkg, Taped and Reeled, MOQ 6000; Published: 20-Sep-2010; DatasheetVersion: revE, Jul-2005; PackageVersion: rev1, Dec-2002; PackageReference: QFN20; Publisher: Altium Limited; PackageDescription: 20-Pin Quad Flat No-Lead, 5 x 5 mm Body, 0.65 mm Pitch, 3.1 x 3.1 mm Exposed Pad; Code_IPC: QFN65P500X500-20V; ComponentLink1Description: T7026 Datasheet; ComponentLink1URL: http://www.atmel.com/dyn/resources/prod_documents/doc4563.pdf; ComponentLink2Description: Atmel.com Home; ComponentLink2URL: http://www.atmel.com
footprint QFN20_N (QFN, 20-Leads, Body 5x5 mm, Pitch 0.65mm, IPC Medium Density)
footprint QFN20_L (QFN, 20-Leads, Body 5x5 mm, Pitch 0.65mm, IPC High Density)
footprint QFN20_M (QFN, 20-Leads, Body 5x5 mm, Pitch 0.65mm, IPC Low Density)
pins: 1 RX_ON (in), 2 R_SW (in), 3 SW_OUT_RX (out), 4 SW_OUT_TX (out), 5 GND_LNA1 (power), 6 LNA_IN (in), 7 GND_LNA2 (power), 8 V3_PA_OUT (out), 9 V3_PA_OUT (out), 10 V3_PA_OUT (out), 11 V2_PA (power), 12 V2_PA (power), 13 GND (power), 14 V1_PA (power), 15 NC, 16 RAMP (in), 17 PA_IN (in), 18 VS_LNA (power), 19 LNA_OUT (out), 20 PU (in), 21 Thermal Pad (power)

## T7026-PGQW
designator U?
2.4 GHz Monolithic SiGe Transmit/Receive front-end IC, 20-Pin QFN Pkg, Taped and Reeled, MOQ 6000, Pb-Free, Halogen-Free; Published: 20-Sep-2010; DatasheetVersion: revE, Jul-2005; PackageVersion: rev1, Dec-2002; PackageReference: QFN20; Publisher: Altium Limited; PackageDescription: 20-Pin Quad Flat No-Lead, 5 x 5 mm Body, 0.65 mm Pitch, 3.1 x 3.1 mm Exposed Pad; Supplier 1: Digi-Key; Supplier Part Number 1: T7026-PGQW-ND; Supplier 2: Mouser; Supplier Part Number 2: 556-T7026-PGQW; Code_IPC: QFN65P500X500-20V; ComponentLink1Description: T7026 Datasheet; ComponentLink1URL: http://www.atmel.com/dyn/resources/prod_documents/doc4563.pdf; ComponentLink2Description: Atmel.com Home; ComponentLink2URL: http://www.atmel.com
footprint QFN20_N (QFN, 20-Leads, Body 5x5 mm, Pitch 0.65mm, IPC Medium Density)
footprint QFN20_L (QFN, 20-Leads, Body 5x5 mm, Pitch 0.65mm, IPC High Density)
footprint QFN20_M (QFN, 20-Leads, Body 5x5 mm, Pitch 0.65mm, IPC Low Density)
pins: 1 RX_ON (in), 2 R_SW (in), 3 SW_OUT_RX (out), 4 SW_OUT_TX (out), 5 GND_LNA1 (power), 6 LNA_IN (in), 7 GND_LNA2 (power), 8 V3_PA_OUT (out), 9 V3_PA_OUT (out), 10 V3_PA_OUT (out), 11 V2_PA (power), 12 V2_PA (power), 13 GND (power), 14 V1_PA (power), 15 NC, 16 RAMP (in), 17 PA_IN (in), 18 VS_LNA (power), 19 LNA_OUT (out), 20 PU (in), 21 Thermal Pad (power)

## U2790B-NFPG3H
designator U?
1000 MHz Quadrature Modulator for Digital Cellular Radio Systems, 16-Pin SOIC Pkg, Taped and Reeled, Pb-Free; Published: 20-Sep-2010; DatasheetVersion: revD, Jul-2006; PackageVersion: 2007; PackageReference: SO16; Publisher: Altium Limited; PackageDescription: 16-Pin Small Outline Integrated Circuit 1.27 mm Pitch; Supplier 1: Digi-Key; Supplier Part Number 1: U2790B-NFPG3H-ND; Supplier 2: Mouser; Supplier Part Number 2: 556-U2790BNFPG3H; ComponentLink1Description: U2790B Datasheet; ComponentLink1URL: http://www.atmel.com/dyn/resources/prod_documents/doc4583.pdf; ComponentLink2Description: Atmel.com Home; ComponentLink2URL: http://www.atmel.com
footprint SO16_N (SOIC, 16-Leads, Body 9.9x3.8mm, Pitch 1.27mm, IPC Medium Density)
footprint SO16_L (SOIC, 16-Leads, Body 9.9x3.8mm, Pitch 1.27mm, IPC High Density)
footprint SO16_M (SOIC, 16-Leads, Body 9.9x3.8mm, Pitch 1.27mm, IPC Low Density)
pins: 1 PU (in), 2 GND (power), 3 RF OUT (out), 4 VS (power), 5 VS (power), 6 SPU (in), 7 BBAI (in), 8 ~{BBAI} (in), 9 BBBI (in), 10 ~{BBBI} (in), 11 GND (power), 12 LO IN (in), 13 GND (power), 14 GND (power), 15 PH ADJ, 16 PH ADJ

## U2790B-NFPH
designator U?
1000 MHz Quadrature Modulator for Digital Cellular Radio Systems, 16-Pin SOIC Pkg, Tube, Pb-Free; Published: 20-Sep-2010; DatasheetVersion: revD, Jul-2006; PackageVersion: 2007; PackageReference: SO16; Publisher: Altium Limited; PackageDescription: 16-Pin Small Outline Integrated Circuit 1.27 mm Pitch; Supplier 1: Digi-Key; Supplier Part Number 1: U2790B-NFPH-ND; Supplier 2: Mouser; Supplier Part Number 2: 556-U2790BNFPH; ComponentLink1Description: U2790B Datasheet; ComponentLink1URL: http://www.atmel.com/dyn/resources/prod_documents/doc4583.pdf; ComponentLink2Description: Atmel.com Home; ComponentLink2URL: http://www.atmel.com
footprint SO16_N (SOIC, 16-Leads, Body 9.9x3.8mm, Pitch 1.27mm, IPC Medium Density)
footprint SO16_L (SOIC, 16-Leads, Body 9.9x3.8mm, Pitch 1.27mm, IPC High Density)
footprint SO16_M (SOIC, 16-Leads, Body 9.9x3.8mm, Pitch 1.27mm, IPC Low Density)
pins: 1 PU (in), 2 GND (power), 3 RF OUT (out), 4 VS (power), 5 VS (power), 6 SPU (in), 7 BBAI (in), 8 ~{BBAI} (in), 9 BBBI (in), 10 ~{BBBI} (in), 11 GND (power), 12 LO IN (in), 13 GND (power), 14 GND (power), 15 PH ADJ, 16 PH ADJ

## U2793B-FNSG3H
designator U?
300 MHz Quadrature Modulator for Digital Cellular Radio Systems & Hybrid Fiber Coax Applications, 20-Pin SSOP Pkg, Taped and Reeled, Pb-Free; Published: 20-Sep-2010; DatasheetVersion: revE, Jul-2006; PackageVersion: 2005; PackageReference: SSO20; Publisher: Altium Limited; PackageDescription: 20-Pin Shrink SOP, 6.6 x 4.4 x 1.3 mm Body, 0.65 mm Pitch; ComponentLink1Description: U2793B Datasheet; ComponentLink1URL: http://www.atmel.com/dyn/resources/prod_documents/doc4651.pdf; ComponentLink2Description: Atmel.com Home; ComponentLink2URL: http://www.atmel.com
footprint SSO20_N (SOP, 20-Leads, Body 6.6x4.4mm, Pitch 0.65mm, IPC Medium Density)
footprint SSO20_L (SOP, 20-Leads, Body 6.6x4.4mm, Pitch 0.65mm, IPC High Density)
footprint SSO20_M (SOP, 20-Leads, Body 6.6x4.4mm, Pitch 0.65mm, IPC Low Density)
pins: 1 PU (in), 2 ACGND (power), 3 GND (power), 4 RF OUT (out), 5 ACGND (power), 6 VS (power), 7 VS (power), 8 SPU (in), 9 BBAI (in), 10 ~{BBAI} (in), 11 BBBI (in), 12 ~{BBBI} (in), 13 VREF (power), 14 LOI (in), 15 ~{LOI} (in), 16 GND (power), 17 GND (power), 18 GND (power), 19 LP2 (out), 20 LP1 (out)

## U2793B-FNSH
designator U?
300 MHz Quadrature Modulator for Digital Cellular Radio Systems & Hybrid Fiber Coax Applications, 20-Pin SSOP Pkg, Tube, Pb-Free; Published: 20-Sep-2010; DatasheetVersion: revE, Jul-2006; PackageVersion: 2005; PackageReference: SSO20; Publisher: Altium Limited; PackageDescription: 20-Pin Shrink SOP, 6.6 x 4.4 x 1.3 mm Body, 0.65 mm Pitch; ComponentLink1Description: U2793B Datasheet; ComponentLink1URL: http://www.atmel.com/dyn/resources/prod_documents/doc4651.pdf; ComponentLink2Description: Atmel.com Home; ComponentLink2URL: http://www.atmel.com
footprint SSO20_N (SOP, 20-Leads, Body 6.6x4.4mm, Pitch 0.65mm, IPC Medium Density)
footprint SSO20_L (SOP, 20-Leads, Body 6.6x4.4mm, Pitch 0.65mm, IPC High Density)
footprint SSO20_M (SOP, 20-Leads, Body 6.6x4.4mm, Pitch 0.65mm, IPC Low Density)
pins: 1 PU (in), 2 ACGND (power), 3 GND (power), 4 RF OUT (out), 5 ACGND (power), 6 VS (power), 7 VS (power), 8 SPU (in), 9 BBAI (in), 10 ~{BBAI} (in), 11 BBBI (in), 12 ~{BBBI} (in), 13 VREF (power), 14 LOI (in), 15 ~{LOI} (in), 16 GND (power), 17 GND (power), 18 GND (power), 19 LP2 (out), 20 LP1 (out)

## U2794B-NFSG3H
designator U?
1000 MHz Quadrature Demodulator for Cellular Phones & Hybrid Fiber Coax Applications, 20-Pin SSOP Pkg, Taped and Reeled, MOQ 4000 pcs, Pb-Free; Published: 20-Sep-2010; DatasheetVersion: revF, Nov-2008; PackageVersion: 2005; PackageReference: SSO20; Publisher: Altium Limited; PackageDescription: 20-Pin Shrink SOP, 6.6 x 4.4 x 1.3 mm Body, 0.65 mm Pitch; Supplier 1: Digi-Key; Supplier Part Number 1: U2794B-NFSG3H-ND; Supplier 2: Mouser; Supplier Part Number 2: 556-U2794BNFSG3H; ComponentLink1Description: U2794B Datasheet; ComponentLink1URL: http://www.atmel.com/dyn/resources/prod_documents/doc4653.pdf; ComponentLink2Description: Atmel.com Home; ComponentLink2URL: http://www.atmel.com
footprint SSO20_N (SOP, 20-Leads, Body 6.6x4.4mm, Pitch 0.65mm, IPC Medium Density)
footprint SSO20_L (SOP, 20-Leads, Body 6.6x4.4mm, Pitch 0.65mm, IPC High Density)
footprint SSO20_M (SOP, 20-Leads, Body 6.6x4.4mm, Pitch 0.65mm, IPC Low Density)
pins: 1 IXOUT (out), 2 IOUT (out), 3 IILPF, 4 IIXLPF, 5 VS (power), 6 VS (power), 7 RFIN (in), 8 RFXIN (in), 9 QQLPF, 10 QQXLPF, 11 GC (in), 12 PCX (in), 13 PC (in), 14 PU (in), 15 LOXIN (in), 16 GND (power), 17 LOIN (in), 18 GND (power), 19 QOUT (out), 20 QXOUT (out)

## U2794B-NFSH
designator U?
1000 MHz Quadrature Demodulator for Cellular Phones & Hybrid Fiber Coax Applications, 20-Pin SSOP Pkg, Tube, MOQ 830 pcs, Pb-Free; Published: 20-Sep-2010; DatasheetVersion: revF, Nov-2008; PackageVersion: 2005; PackageReference: SSO20; Publisher: Altium Limited; PackageDescription: 20-Pin Shrink SOP, 6.6 x 4.4 x 1.3 mm Body, 0.65 mm Pitch; Supplier 1: Digi-Key; Supplier Part Number 1: U2794B-NFSH-ND; Supplier 2: Mouser; Supplier Part Number 2: 556-U2794BNFSH; ComponentLink1Description: U2794B Datasheet; ComponentLink1URL: http://www.atmel.com/dyn/resources/prod_documents/doc4653.pdf; ComponentLink2Description: Atmel.com Home; ComponentLink2URL: http://www.atmel.com
footprint SSO20_N (SOP, 20-Leads, Body 6.6x4.4mm, Pitch 0.65mm, IPC Medium Density)
footprint SSO20_L (SOP, 20-Leads, Body 6.6x4.4mm, Pitch 0.65mm, IPC High Density)
footprint SSO20_M (SOP, 20-Leads, Body 6.6x4.4mm, Pitch 0.65mm, IPC Low Density)
pins: 1 IXOUT (out), 2 IOUT (out), 3 IILPF, 4 IIXLPF, 5 VS (power), 6 VS (power), 7 RFIN (in), 8 RFXIN (in), 9 QQLPF, 10 QQXLPF, 11 GC (in), 12 PCX (in), 13 PC (in), 14 PU (in), 15 LOXIN (in), 16 GND (power), 17 LOIN (in), 18 GND (power), 19 QOUT (out), 20 QXOUT (out)

## U3600BM-NFNG3Y
designator U?
Single-Chip cordless Telephone IC, 44-Pin SOP Pkg, Taped and Reeled, Pb-Free; Published: 20-Sep-2010; DatasheetVersion: revD, Oct-2005; PackageVersion: 2005; PackageReference: SSO44; Publisher: Altium Limited; PackageDescription: 44-Pin Small Outline Package, 18.05 x 7.4 x 2.35 mm Body, 0.8 mm Pitch; ComponentLink1Description: U3600BM Datasheet; ComponentLink1URL: http://www.atmel.com/dyn/resources/prod_documents/doc4516.pdf; ComponentLink2Description: Atmel.com Home; ComponentLink2URL: http://www.atmel.com
footprint SSO44_N (SOP, 44-Leads, Body 17.9x7.4mm, Pitch 0.8mm, IPC Medium Density)
footprint SSO44_L (SOP, 44-Leads, Body 17.9x7.4mm, Pitch 0.8mm, IPC High Density)
footprint SSO44_M (SOP, 44-Leads, Body 17.9x7.4mm, Pitch 0.8mm, IPC Low Density)
pins: 1 PCLO, 2 RFOGND (power), 3 RFO (out), 4 RFOVB (power), 5 AGND (power), 6 VBIAS, 7 VRF (power), 8 MLF, 9 LFGND (power), 10 MODIN (in), 11 VDD (power), 12 VSS (power), 13 D (in), 14 C (in), 15 DACO (out), 16 OPOUT (out), 17 ~{OPIN} (in), 18 TXO (out), 19 LIMIN (in), 20 COUT (out), 21 CTC (out), 22 COIN (in), 23 MICO (out), 24 MICO (in), 25 DAIN (in), 26 RXO (out), 27 RECO2 (out), 28 RECO1 (out), 29 EXIN (in), 30 ETC (out), 31 IFIN2 (in), 32 IFIN1 (in), 33 MIX2IN (in), 34 MIX2GND (power), 35 MIX2O (out), 36 VAF (power), 37 XCK (in), 38 OSCGND (power), 39 MIX1O (out), 40 MIX1IN1 (in), 41 MIX1IN2 (in), 42 GNDLO (power), 43 LO2, 44 LO1

## U3600BM-NFNY
designator U?
Single-Chip cordless Telephone IC, 44-Pin SOP Pkg, Tube, Pb-Free; Published: 20-Sep-2010; DatasheetVersion: revD, Oct-2005; PackageVersion: 2005; PackageReference: SSO44; Publisher: Altium Limited; PackageDescription: 44-Pin Small Outline Package, 18.05 x 7.4 x 2.35 mm Body, 0.8 mm Pitch; Supplier 1: Digi-Key; Supplier Part Number 1: U3600BM-NFNY-ND; Supplier 2: Mouser; Supplier Part Number 2: 556-U3600BM-NFNY; ComponentLink1Description: U3600BM Datasheet; ComponentLink1URL: http://www.atmel.com/dyn/resources/prod_documents/doc4516.pdf; ComponentLink2Description: Atmel.com Home; ComponentLink2URL: http://www.atmel.com
footprint SSO44_N (SOP, 44-Leads, Body 17.9x7.4mm, Pitch 0.8mm, IPC Medium Density)
footprint SSO44_L (SOP, 44-Leads, Body 17.9x7.4mm, Pitch 0.8mm, IPC High Density)
footprint SSO44_M (SOP, 44-Leads, Body 17.9x7.4mm, Pitch 0.8mm, IPC Low Density)
pins: 1 PCLO, 2 RFOGND (power), 3 RFO (out), 4 RFOVB (power), 5 AGND (power), 6 VBIAS, 7 VRF (power), 8 MLF, 9 LFGND (power), 10 MODIN (in), 11 VDD (power), 12 VSS (power), 13 D (in), 14 C (in), 15 DACO (out), 16 OPOUT (out), 17 ~{OPIN} (in), 18 TXO (out), 19 LIMIN (in), 20 COUT (out), 21 CTC (out), 22 COIN (in), 23 MICO (out), 24 MICO (in), 25 DAIN (in), 26 RXO (out), 27 RECO2 (out), 28 RECO1 (out), 29 EXIN (in), 30 ETC (out), 31 IFIN2 (in), 32 IFIN1 (in), 33 MIX2IN (in), 34 MIX2GND (power), 35 MIX2O (out), 36 VAF (power), 37 XCK (in), 38 OSCGND (power), 39 MIX1O (out), 40 MIX1IN1 (in), 41 MIX1IN2 (in), 42 GNDLO (power), 43 LO2, 44 LO1

## U4082B-MFLG
designator U?
Low-Voltage Voice-Switched IC for Hands-Free Operation, 28-Pin SOIC Pkg, Tube, Pb-Free; Published: 20-Sep-2010; DatasheetVersion: revD, Mar-2006; PackageVersion: 2007; PackageReference: SO28; Publisher: Altium Limited; PackageDescription: 28-Pin Small Outline Package ,17.9 x 7.5 mm Body, 1.27 mm Pitch; Supplier 1: Digi-Key; Supplier Part Number 1: U4082B-MFLG-ND; Supplier 2: Mouser; Supplier Part Number 2: 556-U4082B-MFLG; ComponentLink1Description: U4082B Datasheet; ComponentLink1URL: http://www.atmel.com/dyn/resources/prod_documents/doc4743.pdf; ComponentLink2Description: Atmel.com Home; ComponentLink2URL: http://www.atmel.com
footprint SO28_N (SOIC, 28-Leads, Body 17.9x7.5mm, Pitch 1.27mm, IPC Medium Density)
footprint SO28_L (SOIC, 28-Leads, Body 17.9x7.5mm, Pitch 1.27mm, IPC High Density)
footprint SO28_M (SOIC, 28-Leads, Body 17.9x7.5mm, Pitch 1.27mm, IPC Low Density)
pins: 1 FO (out), 2 FI (in), 3 CD (in), 4 VS (power), 5 HTO+ (out), 6 HTO- (out), 7 HTI (in), 8 TO (out), 9 TI (in), 10 MICO (out), 11 MIC (in), 12 MUTE (in), 13 VCI (in), 14 CT, 15 VB (out), 16 CPT, 17 TLI2 (in), 18 TLO2 (out), 19 RLO2 (out), 20 RLI2 (in), 21 RI (in), 22 RECO (out), 23 TLI1 (in), 24 TLO1 (out), 25 RLO1 (out), 26 RLI1 (in), 27 CPR, 28 GND (power)

## U4082B-MFLG3G
designator U?
Low-Voltage Voice-Switched IC for Hands-Free Operation, 28-Pin SOIC Pkg, Taped and Reeled, Pb-Free; Published: 20-Sep-2010; DatasheetVersion: revD, Mar-2006; PackageVersion: 2007; PackageReference: SO28; Publisher: Altium Limited; PackageDescription: 28-Pin Small Outline Package ,17.9 x 7.5 mm Body, 1.27 mm Pitch; Supplier 1: Digi-Key; Supplier Part Number 1: U4082B-MFLG3G-ND; Supplier 2: Mouser; Supplier Part Number 2: 556-U4082B-MFLG3G; ComponentLink1Description: U4082B Datasheet; ComponentLink1URL: http://www.atmel.com/dyn/resources/prod_documents/doc4743.pdf; ComponentLink2Description: Atmel.com Home; ComponentLink2URL: http://www.atmel.com
footprint SO28_N (SOIC, 28-Leads, Body 17.9x7.5mm, Pitch 1.27mm, IPC Medium Density)
footprint SO28_L (SOIC, 28-Leads, Body 17.9x7.5mm, Pitch 1.27mm, IPC High Density)
footprint SO28_M (SOIC, 28-Leads, Body 17.9x7.5mm, Pitch 1.27mm, IPC Low Density)
pins: 1 FO (out), 2 FI (in), 3 CD (in), 4 VS (power), 5 HTO+ (out), 6 HTO- (out), 7 HTI (in), 8 TO (out), 9 TI (in), 10 MICO (out), 11 MIC (in), 12 MUTE (in), 13 VCI (in), 14 CT, 15 VB (out), 16 CPT, 17 TLI2 (in), 18 TLO2 (out), 19 RLO2 (out), 20 RLI2 (in), 21 RI (in), 22 RECO (out), 23 TLI1 (in), 24 TLO1 (out), 25 RLO1 (out), 26 RLI1 (in), 27 CPR, 28 GND (power)

## U4083B-MFPG3Y
designator U?
Low-power Audio Amplifier for Telephone Applications, 8-Pin SOIC Pkg, Taped and Reeled, Pb-Free; Published: 20-Sep-2010; DatasheetVersion: revC, Mar-2006; PackageVersion: rev1, Aug-2006; PackageReference: SO8; Publisher: Altium Limited; PackageDescription: 8-Pin Small Outline Integrated Circuit 1.27 mm Pitch; Supplier 1: Mouser; Supplier Part Number 1: 556-U4083B-MFPG3Y; ComponentLink1Description: U4083B Datasheet; ComponentLink1URL: http://www.atmel.com/dyn/resources/prod_documents/doc4655.pdf; ComponentLink2Description: Atmel.com Home; ComponentLink2URL: http://www.atmel.com
footprint SO8_N (SOIC, 8-Leads, Body 4.9x3.8mm, Pitch 1.27mm, IPC Medium Density)
footprint SO8_L (SOIC, 8-Leads, Body 4.9x3.8mm, Pitch 1.27mm, IPC High Density)
footprint SO8_M (SOIC, 8-Leads, Body 4.9x3.8mm, Pitch 1.27mm, IPC Low Density)
pins: 1 CD (in), 2 FC2, 3 FC1, 4 VI (in), 5 VO1 (out), 6 VS (power), 7 GND (power), 8 VO2 (out)

## U4083B-MFPY
designator U?
Low-power Audio Amplifier for Telephone Applications, 8-Pin SOIC Pkg, Tube, Pb-Free; Published: 20-Sep-2010; DatasheetVersion: revC, Mar-2006; PackageVersion: rev1, Aug-2006; PackageReference: SO8; Publisher: Altium Limited; PackageDescription: 8-Pin Small Outline Integrated Circuit 1.27 mm Pitch; Supplier 1: Mouser; Supplier Part Number 1: 556-U4083B-MFPY; ComponentLink1Description: U4083B Datasheet; ComponentLink1URL: http://www.atmel.com/dyn/resources/prod_documents/doc4655.pdf; ComponentLink2Description: Atmel.com Home; ComponentLink2URL: http://www.atmel.com
footprint SO8_N (SOIC, 8-Leads, Body 4.9x3.8mm, Pitch 1.27mm, IPC Medium Density)
footprint SO8_L (SOIC, 8-Leads, Body 4.9x3.8mm, Pitch 1.27mm, IPC High Density)
footprint SO8_M (SOIC, 8-Leads, Body 4.9x3.8mm, Pitch 1.27mm, IPC Low Density)
pins: 1 CD (in), 2 FC2, 3 FC1, 4 VI (in), 5 VO1 (out), 6 VS (power), 7 GND (power), 8 VO2 (out)

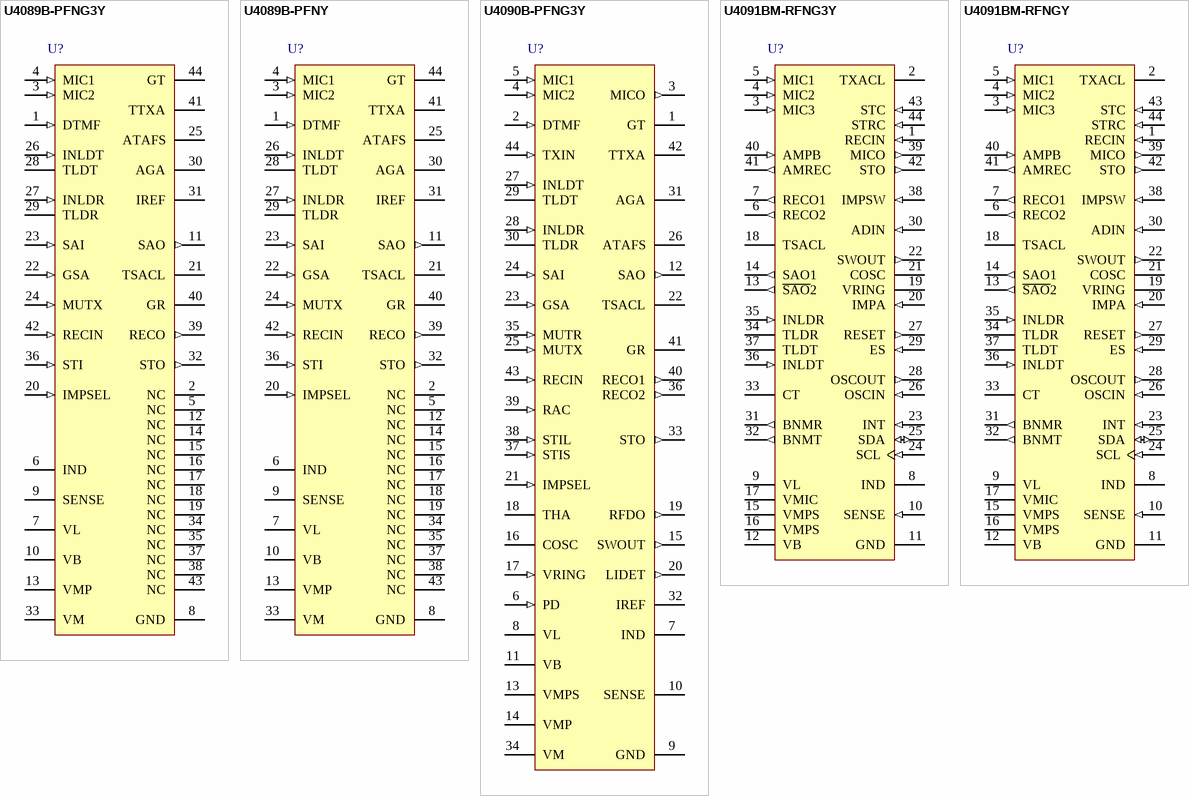
[diagram p8: symbols U4089B-PFNG3Y to U4091BM-RFNGY]

## U4089B-PFNG3Y
designator U?
Monolithic Integrated Feature Phone Circuit, 44-Pin SOP Pkg, Taped and Reeled, Pb-Free; Published: 20-Sep-2010; DatasheetVersion: revC, Oct-2005; PackageVersion: 2005; PackageReference: SSO44; Publisher: Altium Limited; PackageDescription: 44-Pin Small Outline Package, 18.05 x 7.4 x 2.35 mm Body, 0.8 mm Pitch; Supplier 1: Digi-Key; Supplier Part Number 1: U4089B-PFNG3Y-ND; Supplier 2: Mouser; Supplier Part Number 2: 556-U4089B-PFNG3Y; ComponentLink1Description: U4089B Datasheet; ComponentLink1URL: http://www.atmel.com/dyn/resources/prod_documents/doc4518.pdf; ComponentLink2Description: Atmel.com Home; ComponentLink2URL: http://www.atmel.com
footprint SSO44_N (SOP, 44-Leads, Body 17.9x7.4mm, Pitch 0.8mm, IPC Medium Density)
footprint SSO44_L (SOP, 44-Leads, Body 17.9x7.4mm, Pitch 0.8mm, IPC High Density)
footprint SSO44_M (SOP, 44-Leads, Body 17.9x7.4mm, Pitch 0.8mm, IPC Low Density)
pins: 1 DTMF (in), 2 NC, 3 MIC2 (in), 4 MIC1 (in), 5 NC, 6 IND, 7 VL (power), 8 GND (power), 9 SENSE, 10 VB (power), 11 SAO (out), 12 NC, 13 VMP (power), 14 NC, 15 NC, 16 NC, 17 NC, 18 NC, 19 NC, 20 IMPSEL (in), 21 TSACL, 22 GSA (in), 23 SAI (in), 24 MUTX (in), 25 ATAFS, 26 INLDT (in), 27 INLDR (in), 28 TLDT, 29 TLDR, 30 AGA, 31 IREF, 32 STO (out), 33 VM (power), 34 NC, 35 NC, 36 STI (in), 37 NC, 38 NC, 39 RECO (out), 40 GR, 41 TTXA, 42 RECIN (in), 43 NC, 44 GT

## U4089B-PFNY
designator U?
Monolithic Integrated Feature Phone Circuit, 44-Pin SOP Pkg, Tubes, Pb-Free; Published: 20-Sep-2010; DatasheetVersion: revC, Oct-2005; PackageVersion: 2005; PackageReference: SSO44; Publisher: Altium Limited; PackageDescription: 44-Pin Small Outline Package, 18.05 x 7.4 x 2.35 mm Body, 0.8 mm Pitch; Supplier 1: Digi-Key; Supplier Part Number 1: U4089B-PFNY-ND; Supplier 2: Mouser; Supplier Part Number 2: 556-U4089B-PFNY; ComponentLink1Description: U4089B Datasheet; ComponentLink1URL: http://www.atmel.com/dyn/resources/prod_documents/doc4518.pdf; ComponentLink2Description: Atmel.com Home; ComponentLink2URL: http://www.atmel.com
footprint SSO44_N (SOP, 44-Leads, Body 17.9x7.4mm, Pitch 0.8mm, IPC Medium Density)
footprint SSO44_L (SOP, 44-Leads, Body 17.9x7.4mm, Pitch 0.8mm, IPC High Density)
footprint SSO44_M (SOP, 44-Leads, Body 17.9x7.4mm, Pitch 0.8mm, IPC Low Density)
pins: 1 DTMF (in), 2 NC, 3 MIC2 (in), 4 MIC1 (in), 5 NC, 6 IND, 7 VL (power), 8 GND (power), 9 SENSE, 10 VB (power), 11 SAO (out), 12 NC, 13 VMP (power), 14 NC, 15 NC, 16 NC, 17 NC, 18 NC, 19 NC, 20 IMPSEL (in), 21 TSACL, 22 GSA (in), 23 SAI (in), 24 MUTX (in), 25 ATAFS, 26 INLDT (in), 27 INLDR (in), 28 TLDT, 29 TLDR, 30 AGA, 31 IREF, 32 STO (out), 33 VM (power), 34 NC, 35 NC, 36 STI (in), 37 NC, 38 NC, 39 RECO (out), 40 GR, 41 TTXA, 42 RECIN (in), 43 NC, 44 GT

## U4090B-PFNG3Y
designator U?
Monolithic Integrated Feature Phone Circuit, EMI Improved, 44-Pin SOP Pkg, Taped and Reeled, Pb-Free; Published: 20-Sep-2010; DatasheetVersion: revD, Jan-2010; PackageVersion: 2005; PackageReference: SSO44; Publisher: Altium Limited; PackageDescription: 44-Pin Small Outline Package, 18.05 x 7.4 x 2.35 mm Body, 0.8 mm Pitch; Supplier 1: Digi-Key; Supplier Part Number 1: U4090B-PFNG3Y-ND; Supplier 2: Mouser; Supplier Part Number 2: 556-U4090B-PFNG3Y; ComponentLink1Description: U4090B Datasheet; ComponentLink1URL: http://www.atmel.com/dyn/resources/prod_documents/doc4741.pdf; ComponentLink2Description: Atmel.com Home; ComponentLink2URL: http://www.atmel.com
footprint SSO44_N (SOP, 44-Leads, Body 17.9x7.4mm, Pitch 0.8mm, IPC Medium Density)
footprint SSO44_L (SOP, 44-Leads, Body 17.9x7.4mm, Pitch 0.8mm, IPC High Density)
footprint SSO44_M (SOP, 44-Leads, Body 17.9x7.4mm, Pitch 0.8mm, IPC Low Density)
pins: 1 GT, 2 DTMF (in), 3 MICO (out), 4 MIC2 (in), 5 MIC1 (in), 6 PD (in), 7 IND, 8 VL (power), 9 GND (power), 10 SENSE, 11 VB (power), 12 SAO (out), 13 VMPS (power), 14 VMP (power), 15 SWOUT (out), 16 COSC, 17 VRING (in), 18 THA, 19 RFDO (out), 20 LIDET (out), 21 IMPSEL (in), 22 TSACL, 23 GSA (in), 24 SAI (in), 25 MUTX (in), 26 ATAFS, 27 INLDT (in), 28 INLDR (in), 29 TLDT, 30 TLDR, 31 AGA, 32 IREF, 33 STO (out), 34 VM (power), 35 MUTR (in), 36 RECO2 (out), 37 STIS (in), 38 STIL (in), 39 RAC (in), 40 RECO1 (out), 41 GR, 42 TTXA, 43 RECIN (in), 44 TXIN (in)

## U4091BM-RFNG3Y
designator U?
Programmable Telephone Audio Processor, 44-Pin SOP Pkg, Taped and Reeled; Published: 20-Sep-2010; DatasheetVersion: revA, Aug-2005; PackageVersion: 2005; PackageReference: SSO44; Publisher: Altium Limited; PackageDescription: 44-Pin Small Outline Package, 18.05 x 7.4 x 2.35 mm Body, 0.8 mm Pitch; Supplier 1: Digi-Key; Supplier Part Number 1: U4091BM-RFNG3Y-ND; ComponentLink1Description: U4091BM Datasheet; ComponentLink1URL: http://www.atmel.com/dyn/resources/prod_documents/doc4872.pdf; ComponentLink2Description: Atmel.com Home; ComponentLink2URL: http://www.atmel.com
footprint SSO44_N (SOP, 44-Leads, Body 17.9x7.4mm, Pitch 0.8mm, IPC Medium Density)
footprint SSO44_L (SOP, 44-Leads, Body 17.9x7.4mm, Pitch 0.8mm, IPC High Density)
footprint SSO44_M (SOP, 44-Leads, Body 17.9x7.4mm, Pitch 0.8mm, IPC Low Density)
pins: 1 RECIN (in), 2 TXACL, 3 MIC3 (in), 4 MIC2 (in), 5 MIC1 (in), 6 RECO2 (out), 7 RECO1 (out), 8 IND, 9 VL (power), 10 SENSE (in), 11 GND (power), 12 VB (power), 13 ~{SAO}2 (out), 14 SAO1 (out), 15 VMPS (power), 16 VMPS (power), 17 VMIC (power), 18 TSACL, 19 VRING (power), 20 IMPA (in), 21 COSC, 22 SWOUT (out), 23 INT (in), 24 SCL (in), 25 SDA (io), 26 OSCIN (in), 27 RESET (out), 28 OSCOUT (out), 29 ES (in), 30 ADIN (in), 31 BNMR (out), 32 BNMT (out), 33 CT, 34 TLDR, 35 INLDR (in), 36 INLDT (in), 37 TLDT, 38 IMPSW (in), 39 MICO (out), 40 AMPB (in), 41 AMREC (out), 42 STO (out), 43 STC (in), 44 STRC (in)

## U4091BM-RFNGY
designator U?
Programmable Telephone Audio Processor, 44-Pin SOP Pkg, Tube; Published: 20-Sep-2010; DatasheetVersion: revA, Aug-2005; PackageVersion: 2005; PackageReference: SSO44; Publisher: Altium Limited; PackageDescription: 44-Pin Small Outline Package, 18.05 x 7.4 x 2.35 mm Body, 0.8 mm Pitch; ComponentLink1Description: U4091BM Datasheet; ComponentLink1URL: http://www.atmel.com/dyn/resources/prod_documents/doc4872.pdf; ComponentLink2Description: Atmel.com Home; ComponentLink2URL: http://www.atmel.com
footprint SSO44_N (SOP, 44-Leads, Body 17.9x7.4mm, Pitch 0.8mm, IPC Medium Density)
footprint SSO44_L (SOP, 44-Leads, Body 17.9x7.4mm, Pitch 0.8mm, IPC High Density)
footprint SSO44_M (SOP, 44-Leads, Body 17.9x7.4mm, Pitch 0.8mm, IPC Low Density)
pins: 1 RECIN (in), 2 TXACL, 3 MIC3 (in), 4 MIC2 (in), 5 MIC1 (in), 6 RECO2 (out), 7 RECO1 (out), 8 IND, 9 VL (power), 10 SENSE (in), 11 GND (power), 12 VB (power), 13 ~{SAO}2 (out), 14 SAO1 (out), 15 VMPS (power), 16 VMPS (power), 17 VMIC (power), 18 TSACL, 19 VRING (power), 20 IMPA (in), 21 COSC, 22 SWOUT (out), 23 INT (in), 24 SCL (in), 25 SDA (io), 26 OSCIN (in), 27 RESET (out), 28 OSCOUT (out), 29 ES (in), 30 ADIN (in), 31 BNMR (out), 32 BNMT (out), 33 CT, 34 TLDR, 35 INLDR (in), 36 INLDT (in), 37 TLDT, 38 IMPSW (in), 39 MICO (out), 40 AMPB (in), 41 AMREC (out), 42 STO (out), 43 STC (in), 44 STRC (in)